# Altium footprint library pwrswitch.PcbLib: 1 footprints
Each footprint in its own frame and in the unit in brackets; x right, y up, seen from the top. Pads: shape width x height; smd on the part's side, far side on the other; paste and mask are expansions set on the pad; w line width, h text height; cw(c..) or ccw(c..) is an arc to the next point about the centre after c.
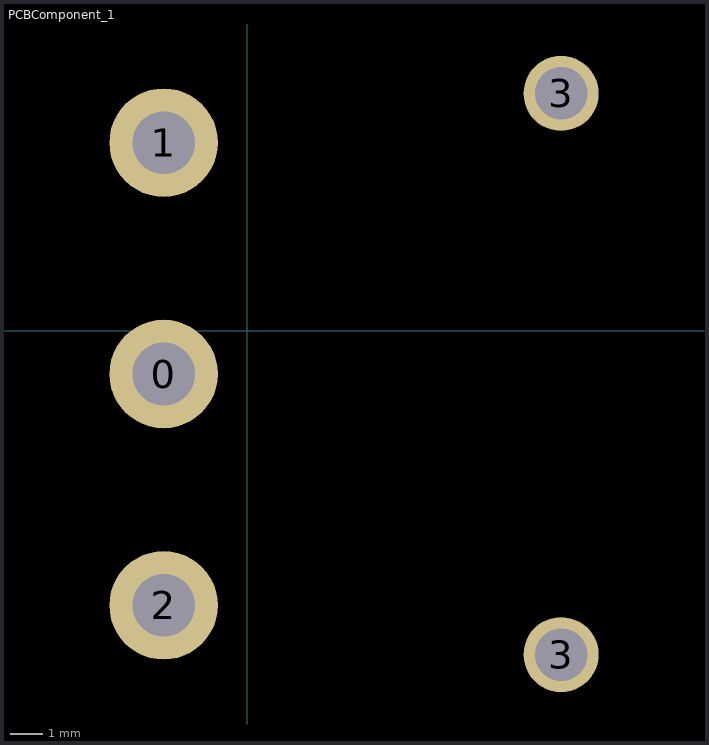
[diagram p0: the footprint, top view; thin cyan lines are the x and y axes]

## PCBComponent_1 [mil]
pads (5):
  round 130 hole 75: 0(-100,-52) 1(-100,225) 2(-100,-329)
  round 90 hole 63: 3(376,-388) 3(376,284)